# Altium footprint library 直插.PcbLib: 159 footprints (part 6 of 10)
Each footprint in its own frame and in the unit in brackets; x right, y up, seen from the top. Pads: shape width x height; smd on the part's side, far side on the other; paste and mask are expansions set on the pad; w line width, h text height; cw(c..) or ccw(c..) is an arc to the next point about the centre after c.
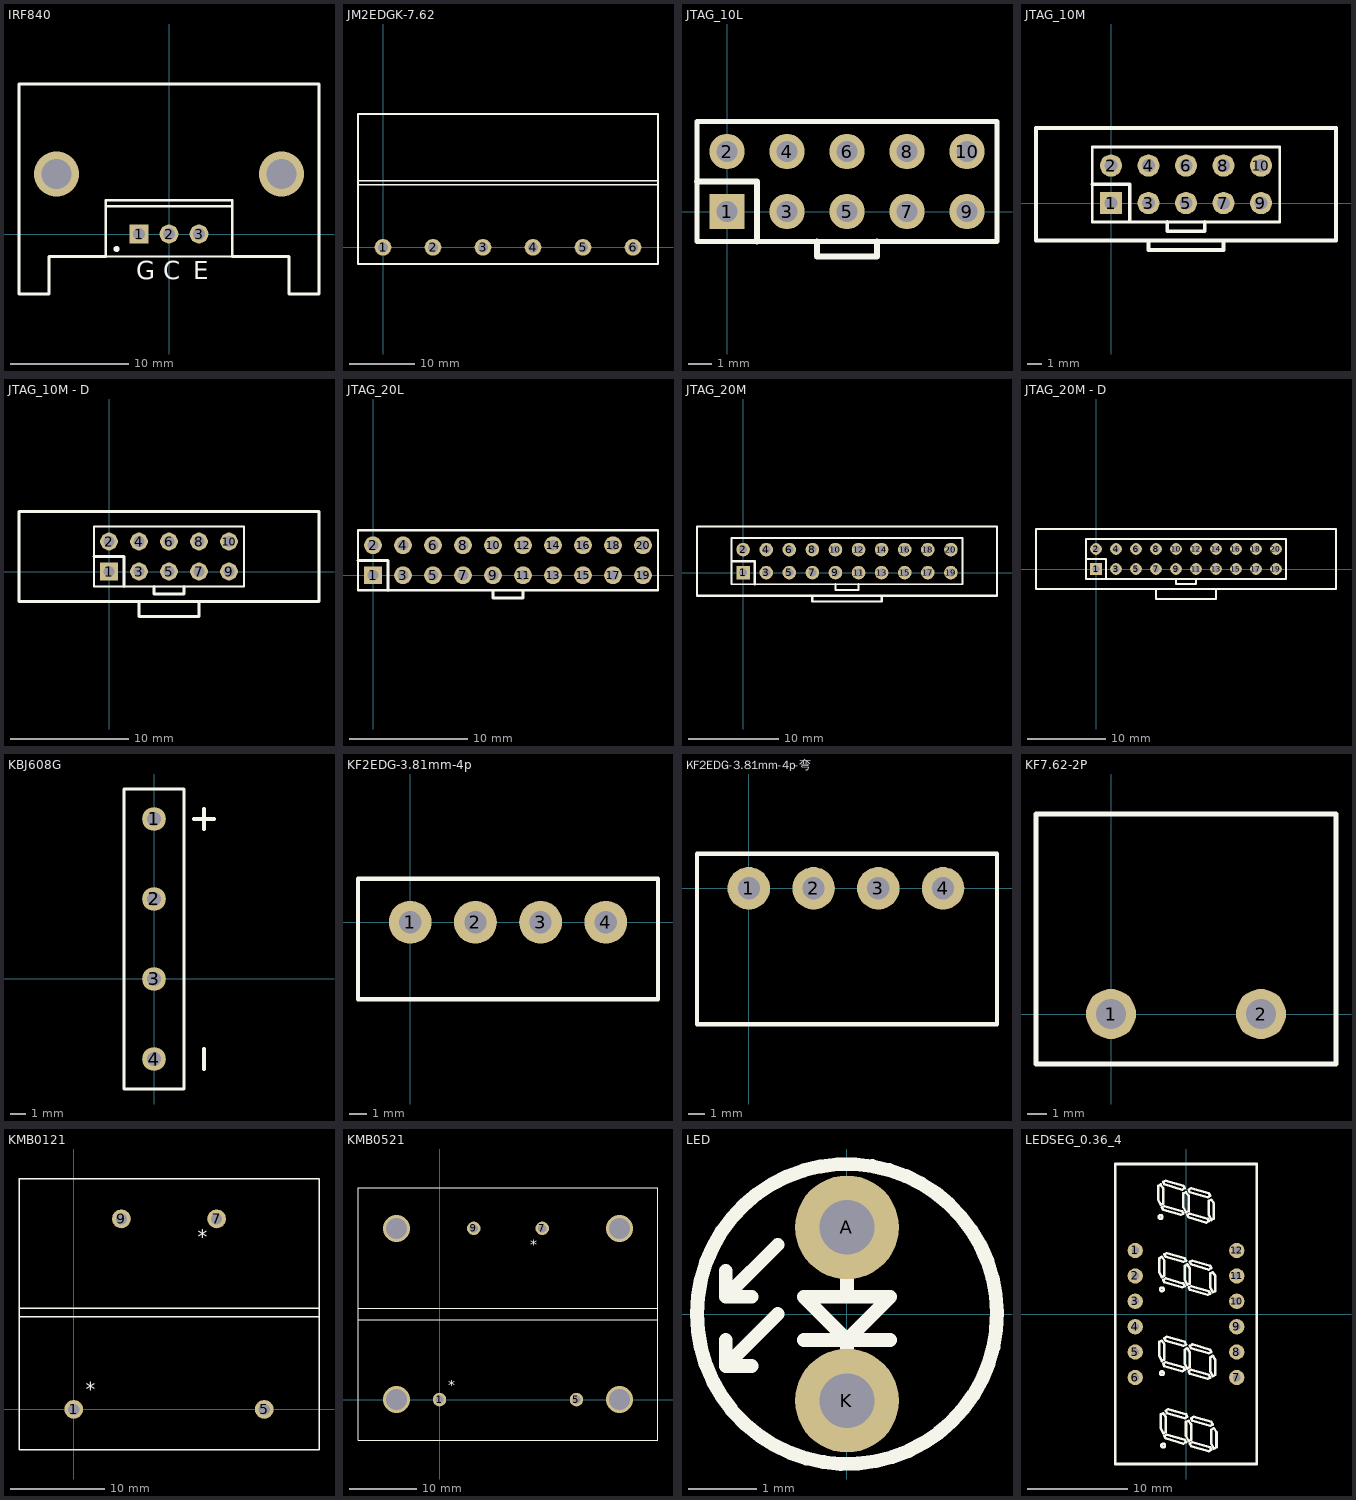
[diagram p5: the footprints below, top view; thin cyan lines are the x and y axes]

## IRF840 [mm]
pads (3):
  rect 1.6x1.6 hole 1: 1(-2.54,0)
  round 1.6 hole 1: 2(0,0) 3(2.54,0)
via 9.525,5.08 diameter 3.81 hole 2.54
via -9.525,5.08 diameter 3.81 hole 2.54
Top Overlay:
  circle w0.254: c-4.445,-1.27 r0.127
  lines w0.2: -5.35,2.35 5.35,2.35 ; -5.35,-1.905 5.35,-1.905 5.35,2.85 -5.35,2.85 -5.35,-1.905
  lines w0.254: -5.35,-1.905 -10.16,-1.905 -10.16,-5.08 -12.7,-5.08 -12.7,12.7 12.7,12.7 12.7,-5.08 10.16,-5.08 10.16,-1.905 5.35,-1.905
  text "C" at -0.5,-3.825 h1.5
  text "G" at -2.79,-3.825 h1.5
  text "E" at 2.04,-3.825 h1.5

## JM2EDGK-7.62 [mil] "6星插座-300mil"
pads (6):
  round 100 hole 60: 1(0,0) 2(300,0) 3(600,0) 4(900,0) 5(1200,0) 6(1500,0)
Top Overlay:
  lines w10: -150,375 1650,375 ; -150,400 1650,400 ; -150,-100 1650,-100 1650,800 -150,800 -150,-100

## JTAG_10L [mm]
pads (10):
  rect 1.5x1.5 hole 0.9: 1(0,0)
  round 1.5 hole 0.9: 2(0,2.54) 3(2.54,0) 4(2.54,2.54) 5(5.08,0) 6(5.08,2.54) 7(7.62,0) 8(7.62,2.54) 9(10.16,0) 10(10.16,2.54)
Top Overlay:
  lines w0.2: -1.27,-1.27 11.43,-1.27 11.43,3.81 -1.27,3.81 -1.27,-1.27
  lines w0.254: -1.27,1.27 1.27,1.27 1.27,-1.27 ; 3.81,-1.27 3.81,-1.905 6.35,-1.905 6.35,-1.27

## JTAG_10M [mm]
pads (10):
  rect 1.5x1.5 hole 0.9: 1(0,0)
  round 1.5 hole 0.9: 2(0,2.54) 3(2.54,0) 4(2.54,2.54) 5(5.08,0) 6(5.08,2.54) 7(7.62,0) 8(7.62,2.54) 9(10.16,0) 10(10.16,2.54)
Top Overlay:
  lines w0.2: -1.27,-1.27 11.43,-1.27 11.43,3.81 -1.27,3.81 -1.27,-1.27
  lines w0.254: -1.27,1.27 1.27,1.27 1.27,-1.27 ; 2.54,-2.54 2.54,-3.175 7.62,-3.175 7.62,-2.54 ; 3.81,-1.27 3.81,-1.905 6.35,-1.905 6.35,-1.27 ; -5.08,-2.54 15.24,-2.54 15.24,5.08 -5.08,5.08 -5.08,-2.54

## JTAG_10M - D [mm]
pads (10):
  rect 1.5x1.5 hole 0.9: 1(0,0)
  round 1.5 hole 0.9: 2(0,2.54) 3(2.54,0) 4(2.54,2.54) 5(5.08,0) 6(5.08,2.54) 7(7.62,0) 8(7.62,2.54) 9(10.16,0) 10(10.16,2.54)
Top Overlay:
  lines w0.2: -1.27,-1.27 -1.27,3.81 11.43,3.81 11.43,-1.27 -1.27,-1.27
  lines w0.254: -1.27,1.27 1.27,1.27 1.27,-1.27 ; 2.54,-2.54 2.54,-3.81 7.62,-3.81 7.62,-2.54 ; 3.81,-1.27 3.81,-1.905 6.35,-1.905 6.35,-1.27 ; -7.62,-2.54 -7.62,5.08 17.78,5.08 17.78,-2.54 -7.62,-2.54

## JTAG_20L [mm] "Connector; Header; 10x2 Position"
pads (20):
  rect 1.5x1.5 hole 0.9: 1(0,0)
  round 1.5 hole 0.9: 2(0,2.54) 3(2.54,0) 4(2.54,2.54) 5(5.08,0) 6(5.08,2.54) 7(7.62,0) 8(7.62,2.54) 9(10.16,0) 10(10.16,2.54) 11(12.7,0) 12(12.7,2.54) 13(15.24,0) 14(15.24,2.54) 15(17.78,0) 16(17.78,2.54) 17(20.32,0) 18(20.32,2.54) 19(22.86,0) 20(22.86,2.54)
Top Overlay:
  lines w0.2: -1.27,-1.27 0.635,-1.27 24.13,-1.27 24.13,3.81 0.635,3.81 -1.27,3.81 -1.27,-1.27
  lines w0.254: -1.27,1.27 1.27,1.27 1.27,-1.27 ; 10.16,-1.27 10.16,-1.905 12.7,-1.905 12.7,-1.27

## JTAG_20M [mm] "Connector; Header; 10x2 Position"
pads (20):
  rect 1.5x1.5 hole 0.9: 1(0,0)
  round 1.5 hole 0.9: 2(0,2.54) 3(2.54,0) 4(2.54,2.54) 5(5.08,0) 6(5.08,2.54) 7(7.62,0) 8(7.62,2.54) 9(10.16,0) 10(10.16,2.54) 11(12.7,0) 12(12.7,2.54) 13(15.24,0) 14(15.24,2.54) 15(17.78,0) 16(17.78,2.54) 17(20.32,0) 18(20.32,2.54) 19(22.86,0) 20(22.86,2.54)
Top Overlay:
  lines w0.2: -1.27,-1.27 -1.27,3.81 0.635,3.81 24.13,3.81 24.13,-1.27 0.635,-1.27 -1.27,-1.27
  lines w0.254: -1.27,1.27 1.27,1.27 1.27,-1.27 ; 7.62,-2.54 7.62,-3.175 15.24,-3.175 15.24,-2.54 ; 10.16,-1.27 10.16,-1.905 12.7,-1.905 12.7,-1.27 ; -5.08,-2.54 -5.08,5.08 27.94,5.08 27.94,-2.54 -5.08,-2.54

## JTAG_20M - D [mm] "Connector; Header; 10x2 Position"
pads (20):
  rect 1.5x1.5 hole 0.9: 1(0,0)
  round 1.5 hole 0.9: 2(0,2.54) 3(2.54,0) 4(2.54,2.54) 5(5.08,0) 6(5.08,2.54) 7(7.62,0) 8(7.62,2.54) 9(10.16,0) 10(10.16,2.54) 11(12.7,0) 12(12.7,2.54) 13(15.24,0) 14(15.24,2.54) 15(17.78,0) 16(17.78,2.54) 17(20.32,0) 18(20.32,2.54) 19(22.86,0) 20(22.86,2.54)
Top Overlay:
  lines w0.2: -1.27,-1.27 -1.27,3.81 0.635,3.81 24.13,3.81 24.13,-1.27 0.635,-1.27 -1.27,-1.27
  lines w0.254: -1.27,1.27 1.27,1.27 1.27,-1.27 ; 7.62,-2.54 7.62,-3.81 15.24,-3.81 15.24,-2.54 ; 10.16,-1.27 10.16,-1.905 12.7,-1.905 12.7,-1.27 ; -7.62,-2.54 -7.62,5.08 30.48,5.08 30.48,-2.54 -7.62,-2.54

## KBJ608G [mm]
pads (4):
  round 1.5 hole 0.9: 1(0,10.16) 2(0,5.08) 3(0,0) 4(0,-5.08)
Top Overlay:
  lines w0.2: -1.905,-6.985 -1.905,12.065 1.905,12.065 1.905,-6.985 -1.905,-6.985
  lines w0.254: 2.54,10.16 3.81,10.16 ; 3.175,-5.715 3.175,-4.445 ; 3.175,9.525 3.175,10.795

## KF2EDG-3.81mm-4p [mm]
pads (4):
  round 2.5 hole 1.3: 1(0,0) 2(3.81,0) 3(7.62,0) 4(11.43,0)
Top Overlay:
  lines w0.254: -3.048,-4.5 -3.048,2.54 14.478,2.54 14.478,-4.5 -3.048,-4.5

## KF2EDG-3.81mm-4p-弯 [mm]
pads (4):
  round 2.5 hole 1.3: 1(0,0) 2(3.81,0) 3(7.62,0) 4(11.43,0)
Top Overlay:
  lines w0.254: -3.048,-8.001 -3.048,2.032 14.605,2.032 14.605,-8.001 -3.048,-8.001

## KF7.62-2P [mil]
pads (2):
  round 100 hole 60: 1(0,0) 2(300,0)
Top Overlay:
  lines w10: -150,-100 450,-100 450,400 -150,400 -150,-100

## KMB0121 [mm]
pads (4):
  round 2 hole 1.2: 1(0,0) 5(20.32,0) 7(15.24,20.32) 9(5.08,20.32)
Top Overlay:
  lines w0.154: -5.84,9.906 26.16,9.906 ; -5.84,10.795 26.16,10.795 ; -5.84,24.61 26.16,24.61 26.16,-4.29 -5.84,-4.29 -5.84,24.638
  text "*" at 13.208,17.653 h1.52
  text "*" at 1.27,1.397 h1.52
3D body: height 28, standoff 0, extent -5.842,-4.318 26.162,24.638

## KMB0521 [mm]
pads (4):
  round 2 hole 1.2: 1(0,0) 5(20.32,0) 7(15.24,25.4) 9(5.08,25.4)
via -6.35,25.4 diameter 4 hole 3.1
via 26.67,25.4 diameter 4 hole 3.1
via 26.67,0 diameter 4 hole 3.1
via -6.35,0 diameter 4 hole 3.1
Top Overlay:
  lines w0.154: -12.09,11.811 32.41,11.811 ; -12.09,13.589 32.41,13.589 ; -12.09,-6.05 -12.09,31.45 32.41,31.45 32.41,-6.05 -12.09,-6.05
  text "*" at 13.462,22.225 h1.52
  text "*" at 1.27,1.397 h1.52
3D body: height 34, standoff 0, extent -12.065,-6.096 32.385,31.496

## LED [mil]
height 139.76
pads (2):
  round 60 hole 31.5: A(0,50) K(0,-50)
Top Overlay:
  lines w8: -70,-15 -70,-30 ; -70,25 -70,10 ; -66.6,-55.38 cw(c0,0) -65.23,-56.99 ; -55,-30 -70,-30 ; -55,10 -70,10 ; -40,0 -70,-30 ; -40,40 -70,10 ; -25,-15 25,-15 ; 0,-40 0,-15 ; 0,10 0,35 ; 0,-15 25,10 -25,10 0,-15

## LEDSEG_0.36_4 [mil] "LED数码管/四位0.36英寸"
pads (12):
  round 60 hole 30: 1(-200,250) 2(-200,150) 3(-200,50) 4(-200,-50) 5(-200,-150) 6(-200,-250) 7(200,-250) 8(200,-150) 9(200,-50) 10(200,50) 11(200,150) 12(200,250)
Top Overlay:
  drawing of 196 lines, arcs and shapes, not listed